# Altium footprint library RTLSDRV3.PcbLib: 1 footprints
Each footprint in its own frame and in the unit in brackets; x right, y up, seen from the top. Pads: shape width x height; smd on the part's side, far side on the other; paste and mask are expansions set on the pad; w line width, h text height; cw(c..) or ccw(c..) is an arc to the next point about the centre after c.
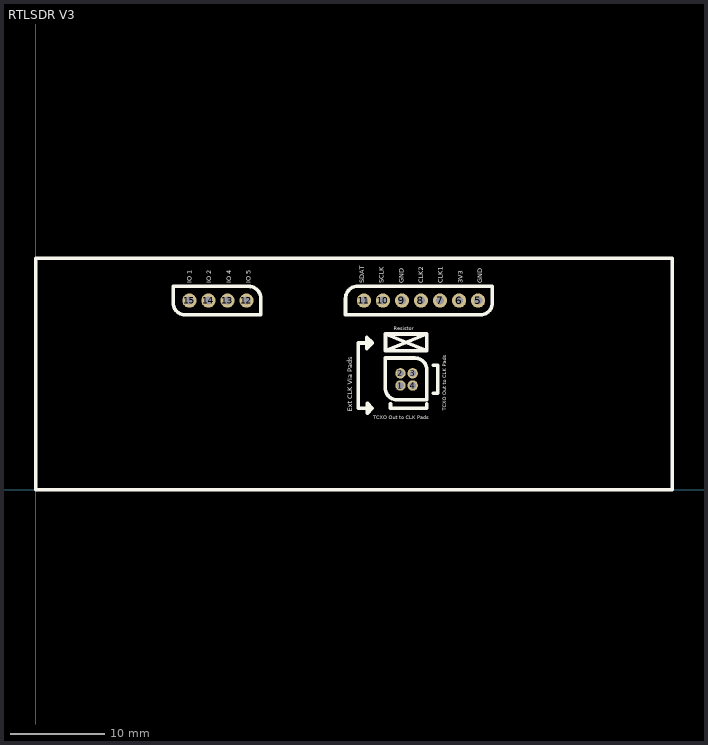
[diagram p0: the footprint, top view; thin cyan lines are the x and y axes]

## RTLSDR V3 [mm] "Untested, Should work fine. Use headers with a clearance of at least 6.38 mm to go past the Capacitor and USB port."
pads (15):
  round 1.1 hole 0.7: 1(38.425,10.975) 2(38.425,12.25) 3(39.706,12.25) 4(39.706,10.975)
  round 1.5 hole 0.88: 5(46.606,19.925) 6(44.6,19.925) 7(42.594,19.925) 8(40.588,19.925) 9(38.582,19.925) 10(36.576,19.925) 11(34.57,19.925) 12(22.2,19.925) 13(20.194,19.925) 14(18.188,19.925) 15(16.182,19.925)
Top Overlay:
  lines w0.381: 20.42,21.425 20.65,21.425 ; 33.926,18.44 46.836,18.425 ccw(c46.836,19.695) 48.106,19.695 48.106,21.449 33.956,21.45 ; 33.931,21.44 ccw(c33.931,20.14) 32.631,20.14 32.631,18.448 36.476,18.425 ; 35.45,15.5 34.875,16.075 34.875,14.875 35.45,15.45 33.975,15.45 33.975,8.575 35.45,8.575 ; 36.806,10.975 36.806,12.375 ; 37.375,9.025 37.375,8.575 41.2,8.575 41.2,9.025 ; 39.706,9.475 38.306,9.475 ; 41.875,10.15 42.35,10.15 42.35,13.1 41.875,13.1 ; 35.45,8.575 34.95,9.075 34.95,8.075 35.45,8.575 ; 36.806,12.375 36.806,13.875 39.706,13.875 39.936,13.875 cw(c39.936,12.605) 41.206,12.605 41.206,10.975 41.206,9.475 38.306,9.475 ; 36.806,12.375 36.806,10.745 ccw(c38.076,10.745) 38.076,9.475 38.306,9.475 ; 36.85,14.65 36.85,16.4 ; 36.85,14.65 41.2,14.65 ; 36.85,14.65 41.2,16.4 ; 36.85,16.4 41.2,16.4 ; 36.85,16.4 41.2,14.65 ; 41.2,14.65 41.2,16.4 ; 41.2,14.65 41.2,16.4 ; 0,0 67.056,0 67.056,24.375 0,24.375 0,0 ; 14.475,19.695 ccw(c15.745,19.695) 15.745,18.425 23.7,18.425 23.7,20.155 ccw(c22.43,20.155) 22.43,21.425 14.475,21.425 14.475,19.695
  text "GND" at 47.05,21.75 h0.51
  text "3V3" at 44.975,21.75 h0.51
  text "CLK1" at 42.9,21.75 h0.51
  text "CLK2" at 40.825,21.75 h0.51
  text "GND" at 38.75,21.75 h0.51
  text "SCLK" at 36.675,21.75 h0.51
  text "SDAT" at 34.6,21.75 h0.51
  text "Ext CLK Via Pads" at 33.323,8.227 h0.51
  text "TCXO Out to CLK Pads" at 35.577,7.427 h0.38
  text "TCXO Out to CLK Pads" at 43.273,8.302 h0.38
  text "Resistor" at 37.727,16.777 h0.38
  text "IO 1" at 16.419,21.75 h0.51
  text "IO 2" at 18.494,21.75 h0.51
  text "IO 4" at 20.569,21.75 h0.51
  text "IO 5" at 22.644,21.75 h0.51
3D body "2PH1-07-UA.STEP": height 5.94, standoff -2.76, extent 33.606,18.925 47.606,20.925
3D body "2PH1-04-UA.STEP": height 5.9, standoff -2.8, extent 15.2,18.9 23.2,20.9
3D body "FTSH-102-04-L-D.STEP": height 6.32, standoff -2.29, extent 37.805,9.885 40.345,13.314